# EAGLE library part M55-7101242R (library M55-7101242R)
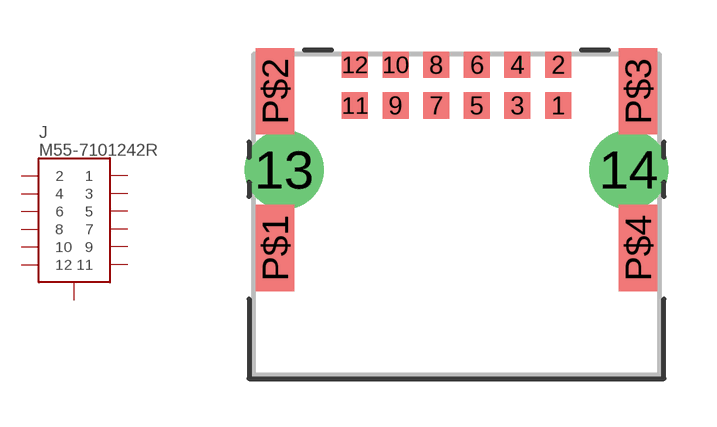
[diagram p0: symbol with the pads of CONN_M55-7101242R_HRW; footprint CONN_M55-7101242R_HRW]

Designator prefix J

## M55-7101242R (COPYRIGHT: Copyright (C) 2022 Ultra Librarian. All rights reserved.; DIGI-KEY_PART_NUMBER_1: 952-3891-2-ND; DIGI-KEY_PART_NUMBER_2: 952-3891-1-ND; DIGI-KEY_PART_NUMBER_3: 952-3891-6-ND; MANUFACTURER_PART_NUMBER: M55-7101242R; MFR_NAME: Harwin)  [CONN_M55-7101242R_HRW]
1  1  pas
2  2  pas
3  3  pas
4  4  pas
5  5  pas
6  6  pas
7  7  pas
8  8  pas
9  9  pas
10  10  pas
11  11  pas
12  12  pas
P$1  GND  pas
P$2  GND  pas
P$3  GND  pas
P$4  GND  pas

## Footprint CONN_M55-7101242R_HRW (pad centres in mm)
smd 0.813 x 0.813: 1 3.175,3.404; 2 3.175,4.674; 3 1.905,3.404; 4 1.905,4.674; 5 0.635,3.404; 6 0.635,4.674; 7 -0.635,3.404; 8 -0.635,4.674; 9 -1.905,3.404; 10 -1.905,4.674; 11 -3.175,3.404; 12 -3.175,4.674
drill 1.651 pad 1.651: 13 -5.385,1.397; 14 5.385,1.397
smd 1.194 x 2.692: P$1 -5.67,-1.046; P$2 -5.67,3.854; P$3 5.67,3.854; P$4 5.67,-1.046